# Altium footprint library 0.1_uF_Kemet_Capacitor.PcbLib: 7 footprints
Each footprint in its own frame and in the unit in brackets; x right, y up, seen from the top. Pads: shape width x height; smd on the part's side, far side on the other; paste and mask are expansions set on the pad; w line width, h text height; cw(c..) or ccw(c..) is an arc to the next point about the centre after c.
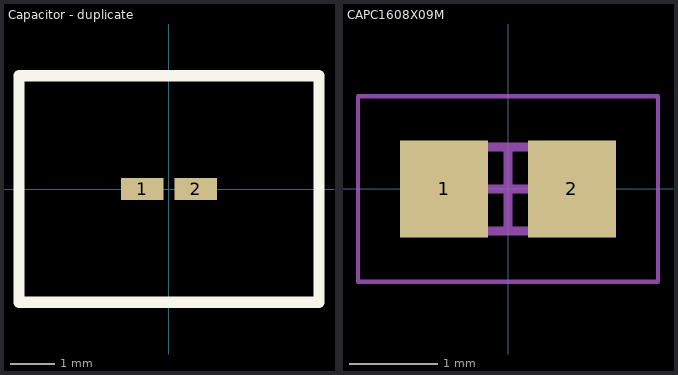
[diagram p0: the footprints below, top view; thin cyan lines are the x and y axes]

## Cap [mm]

## Cap - duplicate [mm]

## Cap_0.1uF [mm]

## Capacitor [mm] "0603 Kemet Ceramic Capacitor"
height 0.84

## Capacitor - duplicate [mm]
pads (2):
  rect 0.95x0.5 smd: 1(-0.6,0) 2(0.6,0)
Top Overlay:
  lines w0.254: -3.365,-2.54 -3.365,0 -3.365,2.54 3.365,2.54 3.365,-2.54 -3.365,-2.54

## CAPC1608X09M [mm] "Chip Capacitor, 2-Leads, Body 1.60x0.80mm, IPC Low Density"
height 0.92
pads (2):
  rect 1x1.1 smd: 1(-0.725,0) 2(0.725,0)
Mechanical 13:
  lines w0.1: -0.875,-0.475 0.875,-0.475 0.875,0.475 -0.875,0.475 -0.875,-0.475
Mechanical 15:
  lines w0.05: -1.7,-1.05 1.7,-1.05 1.7,1.05 -1.7,1.05 -1.7,-1.05
  lines w0.1: -0.475,0 0.475,0 ; 0,-0.475 0,0.475
3D body "CAPC1608X09M.step": height 0.92, standoff 0, extent -0.875,-0.475 0.875,0.475

## PCBComponent_1 - duplicate [mm]